# Altium footprint library PCBLibrary.PcbLib: 61 footprints (part 1 of 4)
Each footprint in its own frame and in the unit in brackets; x right, y up, seen from the top. Pads: shape width x height; smd on the part's side, far side on the other; paste and mask are expansions set on the pad; w line width, h text height; cw(c..) or ccw(c..) is an arc to the next point about the centre after c.
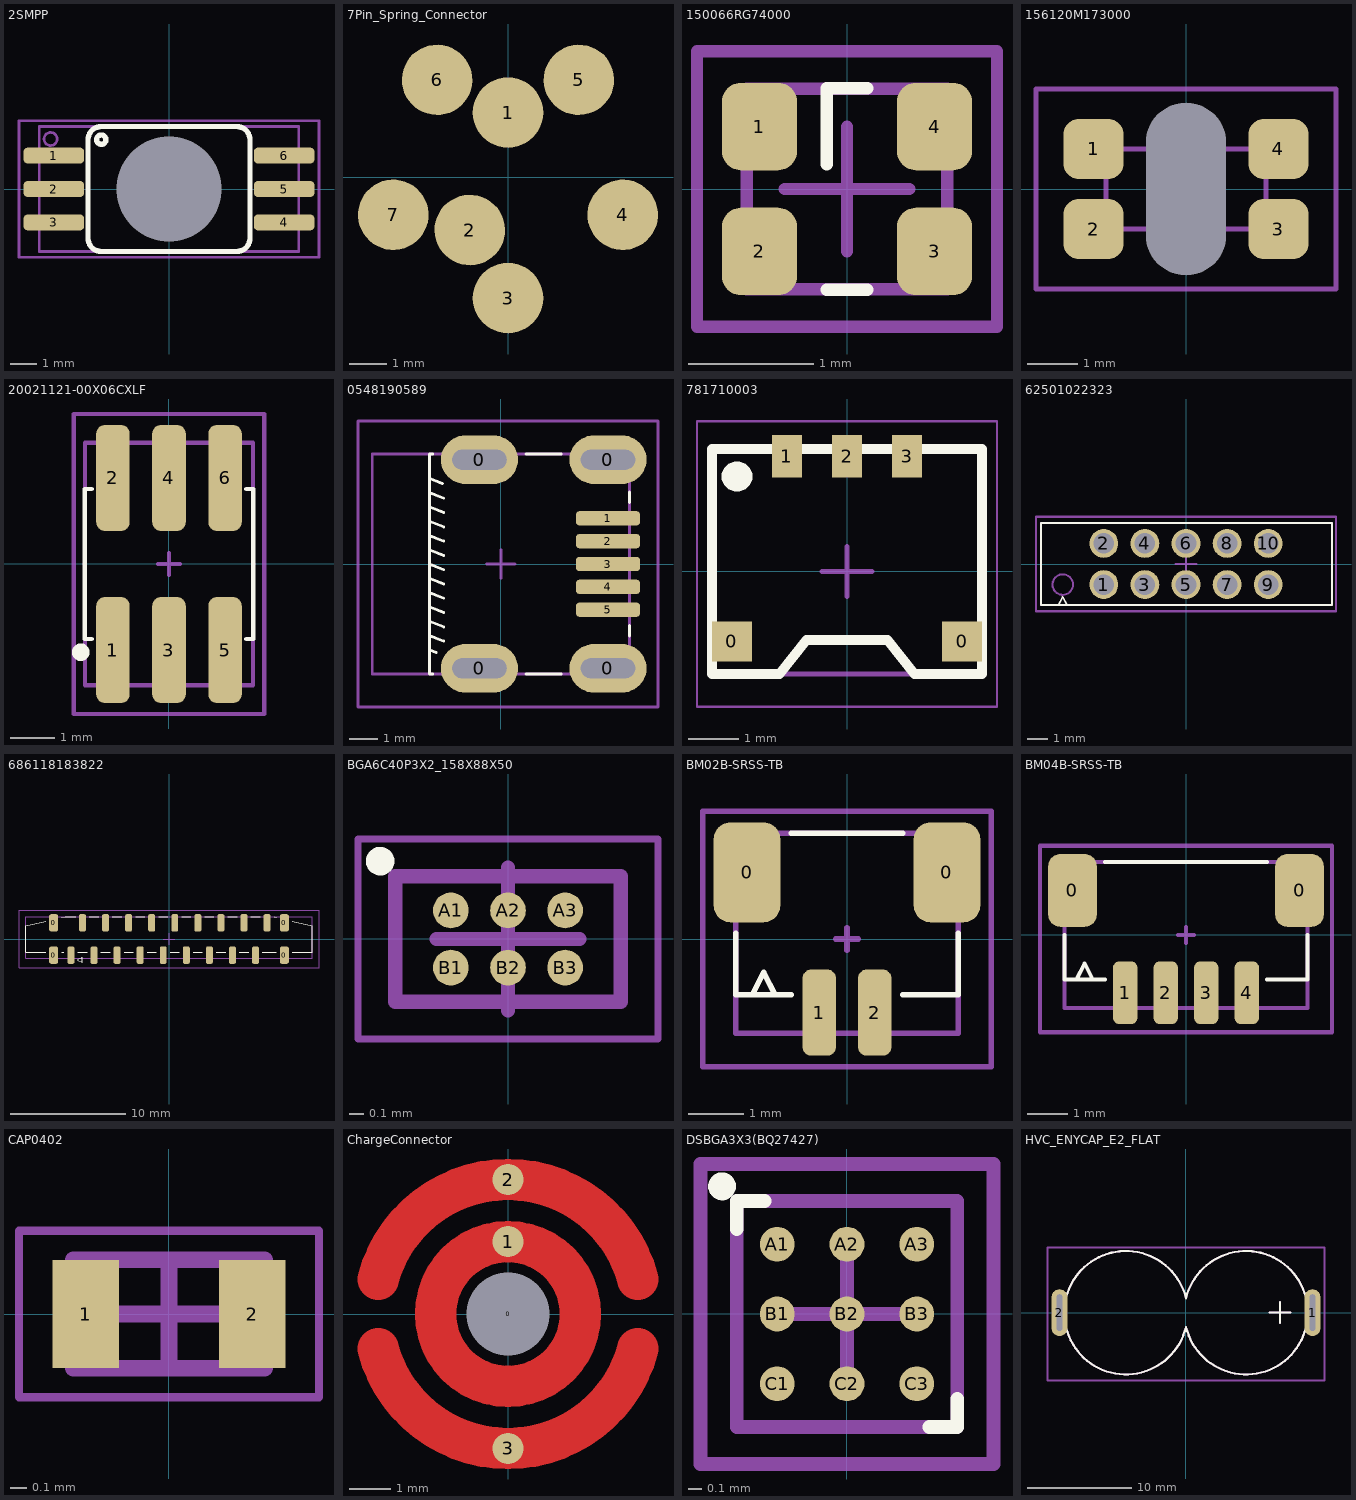
[diagram p0: the footprints below, top view; thin cyan lines are the x and y axes]

## 2SMPP [mm]
pads (7):
  round 0 hole 4 unplated: 0(0,0)
  rrect50% 2.3x0.6 smd: 1(-4.375,1.27) 2(-4.375,0) 3(-4.375,-1.27) 4(4.375,-1.27) 5(4.375,0) 6(4.375,1.27)
Top Overlay:
  circle w0.2: c-2.575,1.875 r0.177
  lines w0.2: 3.075,1.875 ccw(c2.575,1.875) 2.575,2.375 -2.575,2.375 ccw(c-2.575,1.875) -3.075,1.875 -3.075,-1.875 ccw(c-2.575,-1.875) -2.575,-2.375 2.575,-2.375 ccw(c2.575,-1.875) 3.075,-1.875 3.075,1.875 ; 3.075,1.875 3.075,1.875
Mechanical 13:
  circle w0.1: c-4.5,1.9 r0.25
  lines w0.1: -4.925,-2.375 4.925,-2.375 4.925,2.375 -4.925,2.375 -4.925,-2.375
Mechanical 15:
  lines w0.1: -0.5,0 0.5,0 ; 0,-0.5 0,0.5 ; -5.7,-2.6 5.7,-2.6 5.7,2.6 -5.7,2.6 -5.7,-2.6
3D body "sensor_2smpp-02.STEP": height 2.14, standoff -6.11, extent -4.925,-2.375 4.925,2.375

## 7Pin_Spring_Connector [mm]
pads (7):
  round 1.9 smd paste-5: 1(0,1.75) 2(-1.029,-1.416) 3(0,-3.25) 4(3.091,-1.004) 5(1.91,2.629) 6(-1.91,2.629) 7(-3.091,-1.004)
Top Paste:
  lines w0.5: -3.641,-1.437 ccw(c-3.091,-1.004) -2.566,-1.467 ; -3.616,-0.541 cw(c-3.091,-1.004) -2.541,-0.572 ; -2.461,2.197 ccw(c-1.91,2.629) -1.385,2.166 ; -2.435,3.092 cw(c-1.91,2.629) -1.36,3.062 ; -1.579,-1.849 ccw(c-1.029,-1.416) -0.504,-1.879 ; -1.554,-0.953 cw(c-1.029,-1.416) -0.478,-0.983 ; -0.55,-3.683 ccw(c0,-3.25) 0.525,-3.713 ; -0.55,1.317 ccw(c0,1.75) 0.525,1.287 ; -0.525,-2.787 cw(c0,-3.25) 0.55,-2.817 ; -0.525,2.213 cw(c0,1.75) 0.55,2.183 ; 1.36,2.197 ccw(c1.91,2.629) 2.435,2.166 ; 1.385,3.092 cw(c1.91,2.629) 2.461,3.062 ; 2.541,-1.437 ccw(c3.091,-1.004) 3.616,-1.467 ; 2.566,-0.541 cw(c3.091,-1.004) 3.641,-0.572
3D body "0928-0-15-20-77-14-11-0.STEP": height 7.49, standoff 0, extent -0.912,-4.163 0.912,-2.337
3D body "0928-0-15-20-77-14-11-0.STEP": height 7.49, standoff 0, extent -1.94,-2.329 -0.117,-0.502
3D body "0928-0-15-20-77-14-11-0.STEP": height 7.49, standoff 0, extent -4.003,-1.918 -2.179,-0.091
3D body "0928-0-15-20-77-14-11-0.STEP": height 7.49, standoff 0, extent 2.179,-1.918 4.003,-0.091
3D body "0928-0-15-20-77-14-11-0.STEP": height 7.49, standoff 0, extent 0.998,1.716 2.822,3.543
3D body "0928-0-15-20-77-14-11-0.STEP": height 7.49, standoff 0, extent -0.912,0.837 0.912,2.663
3D body "0928-0-15-20-77-14-11-0.STEP": height 7.49, standoff 0, extent -2.822,1.716 -0.998,3.543

## 150066RG74000 [mm] "LED GREEN/RED CLEAR 0606 SMD"
height 0.7
pads (4):
  rrect50% 0.6x0.7 smd: 1(-0.7,0.5) 2(-0.7,-0.5) 3(0.7,-0.5) 4(0.7,0.5)
Top Overlay:
  lines w0.1: -0.163,-0.806 0.163,-0.806 ; -0.163,0.2 -0.163,0.806 0.163,0.806
Mechanical 13:
  lines w0.1: -0.8,-0.8 -0.8,0.8 0.8,0.8 0.8,-0.8 -0.8,-0.8
Mechanical 15:
  lines w0.1: -0.5,0 0.5,0 ; 0,-0.5 0,0.5 ; -1.2,-1.1 -1.2,1.1 1.2,1.1 1.2,-1.1 -1.2,-1.1
3D body "150066RG74000 (rev1).stp": height 0.7, standoff 0, extent -0.8,-0.8 0.8,0.8

## 156120M173000 [mm] "LED RGB CLR 1206 SMD BOTTOM ENT"
height 0.28
pads (5):
  round 0 hole 1.6 slot 3.45 at 90 deg unplated: 0(0,0)
  rrect50% 1.2x1.2 smd: 1(-1.85,0.8) 2(-1.85,-0.8) 3(1.85,-0.8) 4(1.85,0.8)
Mechanical 13:
  lines w0.1: -1.6,-0.8 -1.6,0.8 1.6,0.8 1.6,-0.8 -1.6,-0.8
Mechanical 15:
  lines w0.1: -0.5,0 0.5,0 ; 0,-0.5 0,0.5 ; -3,-2 -3,2 3,2 3,-2 -3,-2
3D body "156120M173000 (rev1).stp": height 0.29, standoff -0.81, extent -1.6,-0.8 1.6,0.8

## 20021121-00X06CXLF [mm]
pads (6):
  rrect50% 0.76x2.4 smd: 1(-1.27,-1.95) 2(-1.27,1.95) 3(0,-1.95) 4(0,1.95) 5(1.27,-1.95) 6(1.27,1.95)
Top Overlay:
  circle w0.2: c-2,-2 r0.1
  lines w0.1: -1.755,-1.7 -1.905,-1.7 -1.905,-1.44 -1.905,1.44 -1.905,1.7 -1.755,1.7 ; 1.755,-1.7 1.905,-1.7 1.905,-1.44 1.905,1.44 1.905,1.7 1.755,1.7
Mechanical 13:
  lines w0.1: -1.905,-2.75 -1.905,2.75 1.905,2.75 1.905,-2.75 -1.905,-2.75
Mechanical 15:
  lines w0.1: -0.25,0 0.25,0 ; 0,-0.25 0,0.25 ; -2.155,-3.4 2.155,-3.4 2.155,3.4 -2.155,3.4 -2.155,-3.4
3D body "20021121-00006XXLFc.stp": height 4.51, standoff 0.01, extent -1.905,-2.75 1.905,2.75

## 0548190589 [mm] "CONN RCPT MINI USB B 5POS SMD RA"
height 3.95
pads (9):
  oval 2.7x1.7 hole 0.7 slot 1.9 at 0 deg: 0(-0.75,-3.65) 0(-0.75,3.65) 0(3.75,-3.65) 0(3.75,3.65)
  rrect50% 2.25x0.5 smd: 1(3.75,1.6) 2(3.75,0.8) 3(3.75,0) 4(3.75,-0.8) 5(3.75,-1.6)
Top Overlay:
  lines w0.1: -2.5,-3 -2.26,-3.096 ; -2.5,-2.5 -2,-2.7 ; -2.5,-2 -2,-2.2 ; -2.5,-1.5 -2,-1.7 ; -2.5,-1 -2,-1.2 ; -2.5,-0.5 -2,-0.7 ; -2.5,0 -2,-0.2 ; -2.5,0.5 -2,0.3 ; -2.5,1 -2,0.8 ; -2.5,1.5 -2,1.3 ; -2.5,2 -2,1.8 ; -2.5,2.5 -2,2.3 ; -2.5,3 -2.047,2.819 ; -2.384,-3.85 -2.5,-3.85 -2.5,3.85 -2.384,3.85 ; 0.884,-3.85 2.116,-3.85 ; 0.884,3.85 2.116,3.85 ; 4.5,-2.526 4.5,-2.152 ; 4.5,2.152 4.5,2.526
Mechanical 13:
  lines w0.1: -4.5,-3.85 4.5,-3.85 4.5,3.85 -4.5,3.85 -4.5,-3.85
Mechanical 15:
  lines w0.1: -0.5,0 0.5,0 ; 0,-0.5 0,0 0,0.5 ; -5,-5 5.5,-5 5.5,5 -5,5 -5,-5
3D body "548190589.stp": height 4.06, standoff -1.79, extent -4.5,-3.85 4.5,3.85

## 781710003 [mm] "1.20mm Pitch, Pico-EZmate PCB Header, 3 Circuits"
height 1.2
pads (5):
  rect 0.8x0.8 smd: 0(-2.3,-1.4) 0(2.3,-1.4)
  rect 0.6x0.85 smd: 1(-1.2,2.3) 2(0,2.3) 3(1.2,2.3)
Top Overlay:
  region: -2.5,1.9 -2.5,1.84 -2.454,1.73 -2.37,1.646 -2.26,1.6 -2.2,1.6 -2.14,1.6 -2.03,1.646 -1.946,1.73 -1.9,1.84 -1.9,1.9 -1.9,1.96 -1.946,2.07 -2.03,2.154 -2.14,2.2 -2.2,2.2 -2.26,2.2 -2.37,2.154 -2.454,2.07 -2.5,1.96
  lines w0.2: -2.7,-2.05 -1.35,-2.05 -0.81,-1.37 0.81,-1.37 1.35,-2.05 2.7,-2.05 2.7,2.45 -2.7,2.45 -2.7,-2.05
Mechanical 13:
  lines w0.1: -2.7,-2.05 2.7,-2.05 2.7,2.45 -2.7,2.45 -2.7,-2.05
Mechanical 15:
  lines w0.05: -3,-2.7 3,-2.7 3,3 -3,3 -3,-2.7
  lines w0.1: -0.5,0 0.5,0 ; 0,-0.5 0,0.5
3D body "781710003.stp": height 1.46, standoff 0.01, extent -2.7,-2.05 2.7,2.48

## 62501022323 [mm]
pads (10):
  round 1.4 hole 1 unplated: 1(-4,-1) 2(-4,1) 3(-2,-1) 4(-2,1) 5(0,-1) 6(0,1) 7(2,-1) 8(2,1) 9(4,-1) 10(4,1)
Top Overlay:
  lines w0.1: -6.2,-2 -6,-1.6 -5.8,-2 ; -7.05,-2 7.1,-2 7.1,2 -7.05,2 -7.05,-2
Mechanical 13:
  circle w0.1: c-6,-1 r0.5
  lines w0.1: -7.05,-2 7.1,-2 7.1,2 -7.05,2 -7.05,-2
Mechanical 15:
  lines w0.1: -0.5,0 0.5,0 ; 0,-0.5 0,0.5 ; -7.3,-2.3 7.3,-2.3 7.3,2.3 -7.3,2.3 -7.3,-2.3
3D body "62501022323 (rev1).stp": height 5.21, standoff -2.79, extent -7.05,-2 7.05,2

## 686118183822 [mm] "CONN FFC VERT 18POS 1MM SMD"
height 3.9
pads (22):
  rrect50% 0.8x1.5 smd: 0(-10,-1.4) 0(-10,1.4) 0(10,-1.4) 0(10,1.4)
  rrect50% 0.6x1.5 smd: 1(-8.5,-1.4) 2(-7.5,1.4) 3(-6.5,-1.4) 4(-5.5,1.4) 5(-4.5,-1.4) 6(-3.5,1.4) 7(-2.5,-1.4) 8(-1.5,1.4) 9(-0.5,-1.4) 10(0.5,1.4) 11(1.5,-1.4) 12(2.5,1.4) 13(3.5,-1.4) 14(4.5,1.4) 15(5.5,-1.4) 16(6.5,1.4) 17(7.5,-1.4) 18(8.5,1.4)
Top Overlay:
  lines w0.1: -10.702,-1.15 -12.4,-1.15 -12.4,1.15 -10.702,1.55 ; -9.298,-1.15 -9.102,-1.15 ; -9.298,1.88 -9,1.95 -8.102,1.95 ; -7.898,-1.841 -7.5,-2 -7.5,-1.6 -7.898,-1.759 ; -7.898,-1.15 -7.102,-1.15 ; -6.898,1.95 -6.102,1.95 ; -5.898,-1.15 -5.102,-1.15 ; -4.898,1.95 -4.102,1.95 ; -3.898,-1.15 -3.102,-1.15 ; -2.898,1.95 -2.102,1.95 ; -1.898,-1.15 -1.102,-1.15 ; -0.898,1.95 -0.102,1.95 ; 0.102,-1.15 0.898,-1.15 ; 1.102,1.95 1.898,1.95 ; 2.102,-1.15 2.898,-1.15 ; 3.102,1.95 3.898,1.95 ; 4.102,-1.15 4.898,-1.15 ; 5.102,1.95 5.898,1.95 ; 6.102,-1.15 6.898,-1.15 ; 7.102,1.95 7.898,1.95 ; 8.102,-1.15 9.298,-1.15 ; 9.102,1.926 9.298,1.88 ; 10.702,-1.15 12.4,-1.15 12.4,1.15 10.702,1.55
Mechanical 13:
  lines w0.1: -12.4,-1.65 12.4,-1.65 12.4,1.95 -12.4,1.95 -12.4,-1.65
Mechanical 15:
  lines w0.1: -0.5,0 0.5,0 ; 0,-0.5 0,0.5 ; -13,-2.5 13,-2.5 13,2.5 -13,2.5 -13,-2.5
3D body "686118183822 (rev1).stp": height 4.04, standoff 0.01, extent -12.4,-1.65 12.4,1.95

## BGA6C40P3X2_158X88X50 [mm] "BGA, 6-Leads, Body 1.58x0.88mmx0.50mm, Pitch 0.40mm"
height 0.5
pads (6):
  round 0.25 smd: A1(-0.4,0.2) A2(0,0.2) A3(0.4,0.2) B1(-0.4,-0.2) B2(0,-0.2) B3(0.4,-0.2)
Top Overlay:
  circle w0.1: c-0.895,0.545 r0.05
Mechanical 13:
  lines w0.1: -0.79,-0.44 -0.79,0.44 0.79,0.44 0.79,-0.44 -0.79,-0.44
Mechanical 15:
  lines w0.05: -1.05,-0.7 -1.05,0.7 1.05,0.7 1.05,-0.7 -1.05,-0.7
  lines w0.1: -0.5,0 0.5,0 ; 0,-0.5 0,0.5
3D body "BGA6C40P3X2_158X88X50.step": height 0.5, standoff 0, extent -0.79,-0.44 0.79,0.44

## BM02B-SRSS-TB [mm] "JST SR/SZ series connector 2 pin SMD TOP entry"
height 4.25
pads (4):
  rrect50% 1.2x1.8 smd: 0(-1.8,1.2) 0(1.8,1.2)
  rrect50% 0.6x1.55 smd: 1(-0.5,-1.325) 2(0.5,-1.325)
Top Overlay:
  lines w0.1: -2,0.1 -2,-1 -1,-1 ; -1.7,-1 -1.5,-0.6 -1.3,-1 ; -1,1.9 1,1.9 ; 1,-1 2,-1 2,0.1
Mechanical 13:
  lines w0.1: -2,-1.7 2,-1.7 2,1.9 -2,1.9 -2,-1.7
Mechanical 15:
  lines w0.1: -0.2,0 0,0 ; 0,-0.2 0,0 ; 0,0.2 0,0 ; 0.2,0 0,0 ; -2.6,-2.3 -2.6,2.3 0,2.3 2.6,2.3 2.6,-2.3 -2.6,-2.3
3D body "BM02B-SRSS-TB.STEP": height 4.33, standoff 0.01, extent -2,-1.7 2,1.9

## BM04B-SRSS-TB [mm] "JST SR/SZ series connector 4 pin SMD TOP entry"
height 4.25
pads (6):
  rrect50% 1.2x1.8 smd: 0(-2.8,1.1) 0(2.8,1.1)
  rrect50% 0.6x1.55 smd: 1(-1.5,-1.425) 2(-0.5,-1.425) 3(0.5,-1.425) 4(1.5,-1.425)
Top Overlay:
  lines w0.1: -3,0 -3,-1.1 -2,-1.1 ; -2.7,-1.1 -2.5,-0.7 -2.3,-1.1 ; -2,1.8 2,1.8 ; 2,-1.1 3,-1.1 3,0
Mechanical 13:
  lines w0.1: -3,-1.8 3,-1.8 3,1.8 -3,1.8 -3,-1.8
Mechanical 15:
  lines w0.1: -0.2,0 0,0 ; 0,-0.2 0,0 ; 0,0.2 0,0 ; 0.2,0 0,0 ; -3.6,-2.4 -3.6,2.2 -1,2.2 3.6,2.2 3.6,-2.4 -3.6,-2.4
3D body "BM04B-SRSS-TB.STEP": height 4.33, standoff 0.01, extent -3,-1.8 3,1.8

## CAP0402 [mm] "Chip Capacitor, 2-Leads, Body 1.00x0.50mm, IPC Medium Density"
height 0.65
pads (2):
  rect 0.4x0.65 smd: 1(-0.5,0) 2(0.5,0)
Mechanical 13:
  lines w0.1: -0.575,-0.325 0.575,-0.325 0.575,0.325 -0.575,0.325 -0.575,-0.325
Mechanical 15:
  lines w0.05: -0.9,-0.5 0.9,-0.5 0.9,0.5 -0.9,0.5 -0.9,-0.5
  lines w0.1: -0.325,0 0.325,0 ; 0,-0.325 0,0.325
3D body "CAP0402.step": height 0.65, standoff 0, extent -0.575,-0.325 0.575,0.325

## ChargeConnector [mm]
pads (4):
  rect 0.2x0.63 hole 2 unplated: 0(0,0)
  round 0.75 smd: 1(0,1.75) 2(0,3.25) 3(0,-3.25)
Top Layer:
  circle w1: c0,0 r1.75
  lines w1: -3.139,-0.841 ccw(c0,0) 3.139,-0.841 ; -3.139,0.841 cw(c0,0) 3.139,0.841

## DSBGA3X3(BQ27427) [mm] "BGA, 9-Leads, Body 1.58x1.62mmx0.63mm, Pitch 0.50mm"
height 0.63
pads (9):
  round 0.25 smd: A1(-0.5,0.5) A2(0,0.5) A3(0.5,0.5) B1(-0.5,0) B2(0,0) B3(0.5,0) C1(-0.5,-0.5) C2(0,-0.5) C3(0.5,-0.5)
Top Overlay:
  circle w0.1: c-0.895,0.915 r0.05
  lines w0.1: -0.79,0.61 -0.79,0.81 -0.59,0.81 ; 0.59,-0.81 0.79,-0.81 0.79,-0.61
Mechanical 13:
  lines w0.1: -0.79,-0.81 -0.79,0.81 0.79,0.81 0.79,-0.81 -0.79,-0.81
Mechanical 15:
  lines w0.1: -0.5,0 0.5,0 ; 0,-0.5 0,0.5 ; -1.05,-1.075 -1.05,1.075 1.05,1.075 1.05,-1.075 -1.05,-1.075
3D body "DSBGA3X3(BQ27427).step": height 0.63, standoff 0, extent -0.79,-0.81 0.79,0.81

## HVC_ENYCAP_E2_FLAT [mm]
pads (2):
  oval 1.5x4.5 hole 0.5 slot 3.5 at 90 deg: 1(12.112,0) 2(-12.112,0)
Top Overlay:
  lines w0.2: -0.007,-1.394 cw(c-5.751,0) 0,1.365 cw(c5.751,0) 0.008,-1.398 ; 8,0 9,0 ; 9,-1 9,0 ; 9,1 9,0 ; 10,0 9,0
Mechanical 13:
  lines w0.2: -0.007,-1.394 cw(c-5.751,0) 0,1.365 cw(c5.751,0) 0.008,-1.398 ; 8,0 9,0 ; 9,-1 9,0 ; 9,1 9,0 ; 10,0 9,0
Mechanical 15:
  lines w0.2: -13.25,-6.5 13.25,-6.5 13.25,6.25 -13.25,6.25 -13.25,-6.5
3D body "MAL219691252E3.stp": height 2.6, standoff -0.8, extent -15.562,-5.91 15.562,5.91